# Altium schematic symbol library Transistors PNP.SchLib: 7 symbols
Pins are listed as number, name and electrical type; pins without a type are passive.

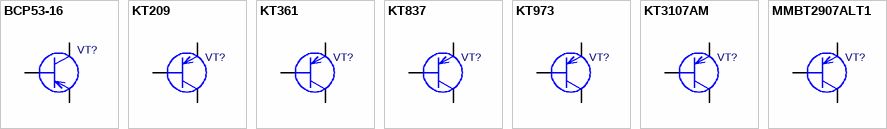
[diagram p0: symbols BCP53-16 to MMBT2907ALT1]

## BCP53-16
designator VT?  (value not drawn)
80V, 1A PNP medium power transistors; Value: *
footprint SOT-223 PWR
pins: 1 B, 2 C, 3 E

## KT209
designator VT?  (value not drawn)
KT209; Value: *
footprint KT26-1_KT26-1-1
footprint KT26-1_Primary
pins: 1 E, 2 B, 3 C

## KT361
designator VT?  (value not drawn)
KT361; Value: *
footprint KT13_KT13-1
footprint KT13_KT13-2
footprint KT13_KT13-3
footprint KT13_Primary
pins: 1 E, 2 B, 3 K

## KT837
designator VT?  (value not drawn)
KT837; Value: *
footprint TO-220AB_Primary
footprint TO-220AB_TO-200AB-R
footprint TO-220AB_TO-200AB-R1
footprint TO-220AB_TO-220AB-1
footprint TO-220AB_TO-220AB-2
pins: 1 E, 2 B, 3 K

## KT973
designator VT?  (value not drawn)
KT973; Value: *
footprint TO-225AA_KT27A
footprint TO-225AA_KT27R
footprint TO-225AA_KT27R1
footprint TO-225AA_Primary
pins: 1 E, 2 B, 3 K

## KT3107AM
designator VT?  (value not drawn)
KT3107AM; Value: *
footprint KT26-1_KT26-1-1
footprint KT26-1_Primary
pins: 1 E, 2 B, 3 K

## MMBT2907ALT1
designator VT?  (value not drawn)
MMBT2907ALT1; Value: *
footprint SOT-23
pins: 1 B, 2 E, 3 C